# Altium integrated library Altium_WRIS-RSKS (rev23a).IntLib: 507 symbols (part 10 of 10)
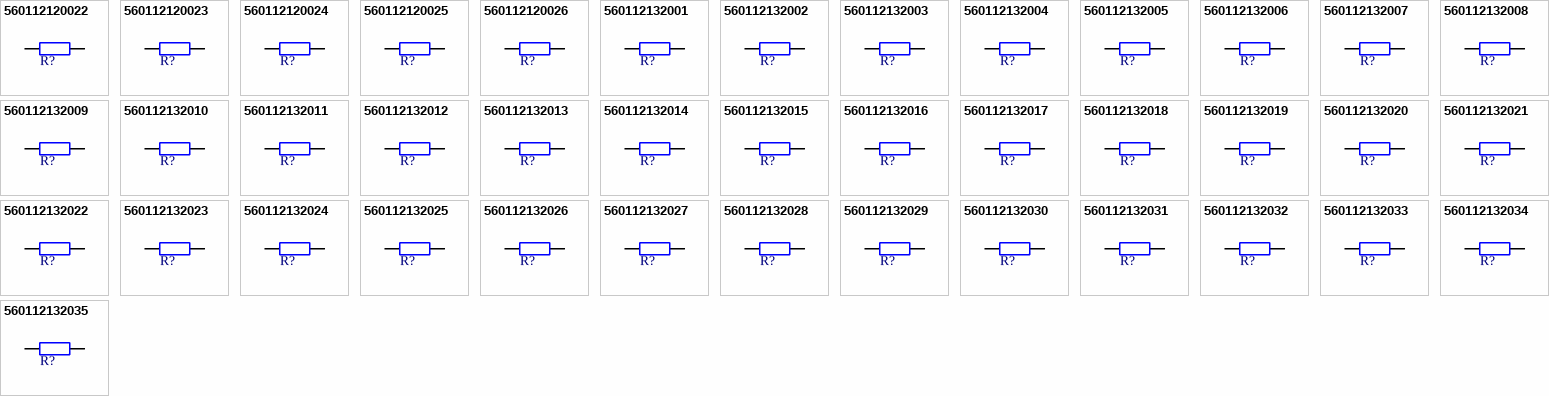
[diagram p21: symbols 560112120022 to 560112132035]

## 560112132026
designator R?, comment 39000Ohm, 250mW  (value not drawn)
WRIS-RSKS Thick Film Resistor, size 1206, 39000Ohm, 250mW; Manufacturer Part Number: 560112132026; Manufacturer: Wurth Elektronik; Case/Size Code: 1206; Limiting Element Voltage: 200V; Resistance Tolerance: +/-1%; Temperature Coefficient of Resistance Min: -100ppm/°C; Temperature Coefficient of Resistance Max: 100ppm/°C; Category: Thick Film Resistors; Match Code: WRIS-RSKS; ComponentLink1Description: Website Link; ComponentLink1URL: https://www.we-online.com/redexpert/article/560112132026?ad; ComponentLink2Description: Datasheet Link; ComponentLink2URL: https://www.we-online.com/redexpert/spec/560112132026?ad; Mount: Surface Mount; Operating Temperature Max: 155°C; Operating Temperature Min: -55°C; Packaging: Tape and Reel; Length: 3.1mm; Width: 1.6mm; Height: 0.6mm; Rated Power: 250mW; Resistance: 39000Ohm
footprint WRIS-RSKS_1206_Reflow
footprint WRIS-RSKS_1206_Wave
pins: 1, 2

## 560112132027
designator R?, comment 2700Ohm, 250mW  (value not drawn)
WRIS-RSKS Thick Film Resistor, size 1206, 2700Ohm, 250mW; Manufacturer Part Number: 560112132027; Manufacturer: Wurth Elektronik; Case/Size Code: 1206; Limiting Element Voltage: 200V; Resistance Tolerance: +/-1%; Temperature Coefficient of Resistance Min: -100ppm/°C; Temperature Coefficient of Resistance Max: 100ppm/°C; Category: Thick Film Resistors; Match Code: WRIS-RSKS; ComponentLink1Description: Website Link; ComponentLink1URL: https://www.we-online.com/redexpert/article/560112132027?ad; ComponentLink2Description: Datasheet Link; ComponentLink2URL: https://www.we-online.com/redexpert/spec/560112132027?ad; Mount: Surface Mount; Operating Temperature Max: 155°C; Operating Temperature Min: -55°C; Packaging: Tape and Reel; Length: 3.1mm; Width: 1.6mm; Height: 0.6mm; Rated Power: 250mW; Resistance: 2700Ohm
footprint WRIS-RSKS_1206_Reflow
footprint WRIS-RSKS_1206_Wave
pins: 1, 2

## 560112132028
designator R?, comment 82000Ohm, 250mW  (value not drawn)
WRIS-RSKS Thick Film Resistor, size 1206, 82000Ohm, 250mW; Manufacturer Part Number: 560112132028; Manufacturer: Wurth Elektronik; Case/Size Code: 1206; Limiting Element Voltage: 200V; Resistance Tolerance: +/-1%; Temperature Coefficient of Resistance Min: -100ppm/°C; Temperature Coefficient of Resistance Max: 100ppm/°C; Category: Thick Film Resistors; Match Code: WRIS-RSKS; ComponentLink1Description: Website Link; ComponentLink1URL: https://www.we-online.com/redexpert/article/560112132028?ad; ComponentLink2Description: Datasheet Link; ComponentLink2URL: https://www.we-online.com/redexpert/spec/560112132028?ad; Mount: Surface Mount; Operating Temperature Max: 155°C; Operating Temperature Min: -55°C; Packaging: Tape and Reel; Length: 3.1mm; Width: 1.6mm; Height: 0.6mm; Rated Power: 250mW; Resistance: 82000Ohm
footprint WRIS-RSKS_1206_Reflow
footprint WRIS-RSKS_1206_Wave
pins: 1, 2

## 560112132029
designator R?, comment 4700000Ohm, 250mW  (value not drawn)
WRIS-RSKS Thick Film Resistor, size 1206, 4700000Ohm, 250mW; Manufacturer Part Number: 560112132029; Manufacturer: Wurth Elektronik; Case/Size Code: 1206; Limiting Element Voltage: 200V; Resistance Tolerance: +/-1%; Temperature Coefficient of Resistance Min: -200ppm/°C; Temperature Coefficient of Resistance Max: 200ppm/°C; Category: Thick Film Resistors; Match Code: WRIS-RSKS; ComponentLink1Description: Website Link; ComponentLink1URL: https://www.we-online.com/redexpert/article/560112132029?ad; ComponentLink2Description: Datasheet Link; ComponentLink2URL: https://www.we-online.com/redexpert/spec/560112132029?ad; Mount: Surface Mount; Operating Temperature Max: 155°C; Operating Temperature Min: -55°C; Packaging: Tape and Reel; Length: 3.1mm; Width: 1.6mm; Height: 0.6mm; Rated Power: 250mW; Resistance: 4700000Ohm
footprint WRIS-RSKS_1206_Reflow
footprint WRIS-RSKS_1206_Wave
pins: 1, 2

## 560112132030
designator R?, comment 1000Ohm, 250mW  (value not drawn)
WRIS-RSKS Thick Film Resistor, size 1206, 1000Ohm, 250mW; Manufacturer Part Number: 560112132030; Manufacturer: Wurth Elektronik; Case/Size Code: 1206; Limiting Element Voltage: 200V; Resistance Tolerance: +/-5%; Temperature Coefficient of Resistance Min: -100ppm/°C; Temperature Coefficient of Resistance Max: 100ppm/°C; Category: Thick Film Resistors; Match Code: WRIS-RSKS; ComponentLink1Description: Website Link; ComponentLink1URL: https://www.we-online.com/redexpert/article/560112132030?ad; ComponentLink2Description: Datasheet Link; ComponentLink2URL: https://www.we-online.com/redexpert/spec/560112132030?ad; Mount: Surface Mount; Operating Temperature Max: 155°C; Operating Temperature Min: -55°C; Packaging: Tape and Reel; Length: 3.1mm; Width: 1.6mm; Height: 0.6mm; Rated Power: 250mW; Resistance: 1000Ohm
footprint WRIS-RSKS_1206_Reflow
footprint WRIS-RSKS_1206_Wave
pins: 1, 2

## 560112132031
designator R?, comment 4.3Ohm, 250mW  (value not drawn)
WRIS-RSKS Thick Film Resistor, size 1206, 4.3Ohm, 250mW; Manufacturer Part Number: 560112132031; Manufacturer: Wurth Elektronik; Case/Size Code: 1206; Limiting Element Voltage: 200V; Resistance Tolerance: +/-1%; Temperature Coefficient of Resistance Min: -200ppm/°C; Temperature Coefficient of Resistance Max: 400ppm/°C; Category: Thick Film Resistors; Match Code: WRIS-RSKS; ComponentLink1Description: Website Link; ComponentLink1URL: https://www.we-online.com/redexpert/article/560112132031?ad; ComponentLink2Description: Datasheet Link; ComponentLink2URL: https://www.we-online.com/redexpert/spec/560112132031?ad; Mount: Surface Mount; Operating Temperature Max: 155°C; Operating Temperature Min: -55°C; Packaging: Tape and Reel; Length: 3.1mm; Width: 1.6mm; Height: 0.6mm; Rated Power: 250mW; Resistance: 4.3Ohm
footprint WRIS-RSKS_1206_Reflow
footprint WRIS-RSKS_1206_Wave
pins: 1, 2

## 560112132032
designator R?, comment 18Ohm, 250mW  (value not drawn)
WRIS-RSKS Thick Film Resistor, size 1206, 18Ohm, 250mW; Manufacturer Part Number: 560112132032; Manufacturer: Wurth Elektronik; Case/Size Code: 1206; Limiting Element Voltage: 200V; Resistance Tolerance: +/-5%; Temperature Coefficient of Resistance Min: -100ppm/°C; Temperature Coefficient of Resistance Max: 100ppm/°C; Category: Thick Film Resistors; Match Code: WRIS-RSKS; ComponentLink1Description: Website Link; ComponentLink1URL: https://www.we-online.com/redexpert/article/560112132032?ad; ComponentLink2Description: Datasheet Link; ComponentLink2URL: https://www.we-online.com/redexpert/spec/560112132032?ad; Mount: Surface Mount; Operating Temperature Max: 155°C; Operating Temperature Min: -55°C; Packaging: Tape and Reel; Length: 3.1mm; Width: 1.6mm; Height: 0.6mm; Rated Power: 250mW; Resistance: 18Ohm
footprint WRIS-RSKS_1206_Reflow
footprint WRIS-RSKS_1206_Wave
pins: 1, 2

## 560112132033
designator R?, comment 33Ohm, 250mW  (value not drawn)
WRIS-RSKS Thick Film Resistor, size 1206, 33Ohm, 250mW; Manufacturer Part Number: 560112132033; Manufacturer: Wurth Elektronik; Case/Size Code: 1206; Limiting Element Voltage: 200V; Resistance Tolerance: +/-5%; Temperature Coefficient of Resistance Min: -100ppm/°C; Temperature Coefficient of Resistance Max: 100ppm/°C; Category: Thick Film Resistors; Match Code: WRIS-RSKS; ComponentLink1Description: Website Link; ComponentLink1URL: https://www.we-online.com/redexpert/article/560112132033?ad; ComponentLink2Description: Datasheet Link; ComponentLink2URL: https://www.we-online.com/redexpert/spec/560112132033?ad; Mount: Surface Mount; Operating Temperature Max: 155°C; Operating Temperature Min: -55°C; Packaging: Tape and Reel; Length: 3.1mm; Width: 1.6mm; Height: 0.6mm; Rated Power: 250mW; Resistance: 33Ohm
footprint WRIS-RSKS_1206_Reflow
footprint WRIS-RSKS_1206_Wave
pins: 1, 2

## 560112132034
designator R?, comment 100000Ohm, 250mW  (value not drawn)
WRIS-RSKS Thick Film Resistor, size 1206, 100000Ohm, 250mW; Manufacturer Part Number: 560112132034; Manufacturer: Wurth Elektronik; Case/Size Code: 1206; Limiting Element Voltage: 200V; Resistance Tolerance: +/-1%; Temperature Coefficient of Resistance Min: -100ppm/°C; Temperature Coefficient of Resistance Max: 100ppm/°C; Category: Thick Film Resistors; Match Code: WRIS-RSKS; ComponentLink1Description: Website Link; ComponentLink1URL: https://www.we-online.com/redexpert/article/560112132034?ad; ComponentLink2Description: Datasheet Link; ComponentLink2URL: https://www.we-online.com/redexpert/spec/560112132034?ad; Mount: Surface Mount; Operating Temperature Max: 155°C; Operating Temperature Min: -55°C; Packaging: Tape and Reel; Length: 3.1mm; Width: 1.6mm; Height: 0.6mm; Rated Power: 250mW; Resistance: 100000Ohm
footprint WRIS-RSKS_1206_Reflow
footprint WRIS-RSKS_1206_Wave
pins: 1, 2

## 560112132035
designator R?, comment 422000Ohm, 250mW  (value not drawn)
WRIS-RSKS Thick Film Resistor, size 1206, 422000Ohm, 250mW; Manufacturer Part Number: 560112132035; Manufacturer: Wurth Elektronik; Case/Size Code: 1206; Limiting Element Voltage: 200V; Resistance Tolerance: +/-1%; Temperature Coefficient of Resistance Min: -100ppm/°C; Temperature Coefficient of Resistance Max: 100ppm/°C; Category: Thick Film Resistors; Match Code: WRIS-RSKS; ComponentLink1Description: Website Link; ComponentLink1URL: https://www.we-online.com/redexpert/article/560112132035?ad; ComponentLink2Description: Datasheet Link; ComponentLink2URL: https://www.we-online.com/redexpert/spec/560112132035?ad; Mount: Surface Mount; Operating Temperature Max: 155°C; Operating Temperature Min: -55°C; Packaging: Tape and Reel; Length: 3.1mm; Width: 1.6mm; Height: 0.6mm; Rated Power: 250mW; Resistance: 422000Ohm
footprint WRIS-RSKS_1206_Reflow
footprint WRIS-RSKS_1206_Wave
pins: 1, 2

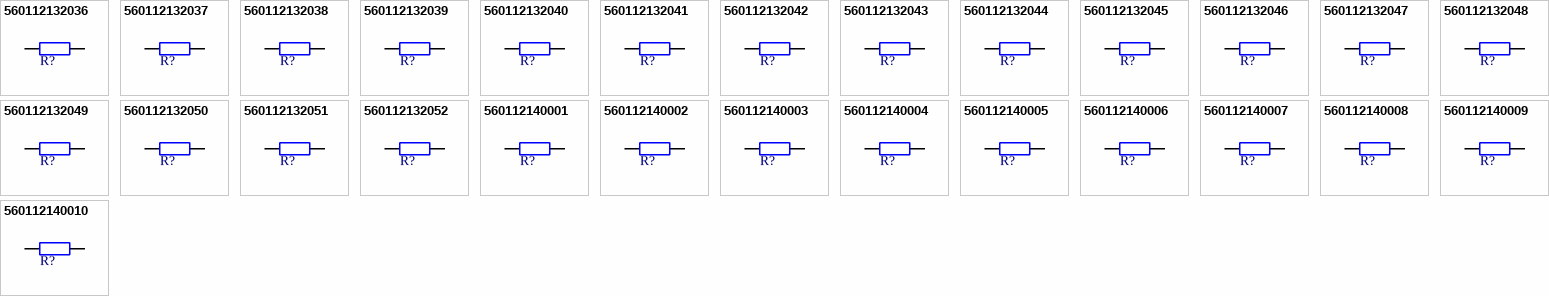
[diagram p12: symbols 560112132036 to 560112140010]

## 560112132036
designator R?, comment 330000Ohm, 250mW  (value not drawn)
WRIS-RSKS Thick Film Resistor, size 1206, 330000Ohm, 250mW; Manufacturer Part Number: 560112132036; Manufacturer: Wurth Elektronik; Case/Size Code: 1206; Limiting Element Voltage: 200V; Resistance Tolerance: +/-1%; Temperature Coefficient of Resistance Min: -100ppm/°C; Temperature Coefficient of Resistance Max: 100ppm/°C; Category: Thick Film Resistors; Match Code: WRIS-RSKS; ComponentLink1Description: Website Link; ComponentLink1URL: https://www.we-online.com/redexpert/article/560112132036?ad; ComponentLink2Description: Datasheet Link; ComponentLink2URL: https://www.we-online.com/redexpert/spec/560112132036?ad; Mount: Surface Mount; Operating Temperature Max: 155°C; Operating Temperature Min: -55°C; Packaging: Tape and Reel; Length: 3.1mm; Width: 1.6mm; Height: 0.6mm; Rated Power: 250mW; Resistance: 330000Ohm
footprint WRIS-RSKS_1206_Reflow
footprint WRIS-RSKS_1206_Wave
pins: 1, 2

## 560112132037
designator R?, comment 39Ohm, 250mW  (value not drawn)
WRIS-RSKS Thick Film Resistor, size 1206, 39Ohm, 250mW; Manufacturer Part Number: 560112132037; Manufacturer: Wurth Elektronik; Case/Size Code: 1206; Limiting Element Voltage: 200V; Resistance Tolerance: +/-1%; Temperature Coefficient of Resistance Min: -100ppm/°C; Temperature Coefficient of Resistance Max: 100ppm/°C; Category: Thick Film Resistors; Match Code: WRIS-RSKS; ComponentLink1Description: Website Link; ComponentLink1URL: https://www.we-online.com/redexpert/article/560112132037?ad; ComponentLink2Description: Datasheet Link; ComponentLink2URL: https://www.we-online.com/redexpert/spec/560112132037?ad; Mount: Surface Mount; Operating Temperature Max: 155°C; Operating Temperature Min: -55°C; Packaging: Tape and Reel; Length: 3.1mm; Width: 1.6mm; Height: 0.6mm; Rated Power: 250mW; Resistance: 39Ohm
footprint WRIS-RSKS_1206_Reflow
footprint WRIS-RSKS_1206_Wave
pins: 1, 2

## 560112132038
designator R?, comment 1000Ohm, 250mW  (value not drawn)
WRIS-RSKS Thick Film Resistor, size 1206, 1000Ohm, 250mW; Manufacturer Part Number: 560112132038; Manufacturer: Wurth Elektronik; Case/Size Code: 1206; Limiting Element Voltage: 200V; Resistance Tolerance: +/-1%; Temperature Coefficient of Resistance Min: -100ppm/°C; Temperature Coefficient of Resistance Max: 100ppm/°C; Category: Thick Film Resistors; Match Code: WRIS-RSKS; ComponentLink1Description: Website Link; ComponentLink1URL: https://www.we-online.com/redexpert/article/560112132038?ad; ComponentLink2Description: Datasheet Link; ComponentLink2URL: https://www.we-online.com/redexpert/spec/560112132038?ad; Mount: Surface Mount; Operating Temperature Max: 155°C; Operating Temperature Min: -55°C; Packaging: Tape and Reel; Length: 3.1mm; Width: 1.6mm; Height: 0.6mm; Rated Power: 250mW; Resistance: 1000Ohm
footprint WRIS-RSKS_1206_Reflow
footprint WRIS-RSKS_1206_Wave
pins: 1, 2

## 560112132039
designator R?, comment 10Ohm, 250mW  (value not drawn)
WRIS-RSKS Thick Film Resistor, size 1206, 10Ohm, 250mW; Manufacturer Part Number: 560112132039; Manufacturer: Wurth Elektronik; Case/Size Code: 1206; Limiting Element Voltage: 200V; Resistance Tolerance: +/-1%; Temperature Coefficient of Resistance Min: -200ppm/°C; Temperature Coefficient of Resistance Max: 400ppm/°C; Category: Thick Film Resistors; Match Code: WRIS-RSKS; ComponentLink1Description: Website Link; ComponentLink1URL: https://www.we-online.com/redexpert/article/560112132039?ad; ComponentLink2Description: Datasheet Link; ComponentLink2URL: https://www.we-online.com/redexpert/spec/560112132039?ad; Mount: Surface Mount; Operating Temperature Max: 155°C; Operating Temperature Min: -55°C; Packaging: Tape and Reel; Length: 3.1mm; Width: 1.6mm; Height: 0.6mm; Rated Power: 250mW; Resistance: 10Ohm
footprint WRIS-RSKS_1206_Reflow
footprint WRIS-RSKS_1206_Wave
pins: 1, 2

## 560112132040
designator R?, comment 1500000Ohm, 250mW  (value not drawn)
WRIS-RSKS Thick Film Resistor, size 1206, 1500000Ohm, 250mW; Manufacturer Part Number: 560112132040; Manufacturer: Wurth Elektronik; Case/Size Code: 1206; Limiting Element Voltage: 200V; Resistance Tolerance: +/-1%; Temperature Coefficient of Resistance Min: -200ppm/°C; Temperature Coefficient of Resistance Max: 200ppm/°C; Category: Thick Film Resistors; Match Code: WRIS-RSKS; ComponentLink1Description: Website Link; ComponentLink1URL: https://www.we-online.com/redexpert/article/560112132040?ad; ComponentLink2Description: Datasheet Link; ComponentLink2URL: https://www.we-online.com/redexpert/spec/560112132040?ad; Mount: Surface Mount; Operating Temperature Max: 155°C; Operating Temperature Min: -55°C; Packaging: Tape and Reel; Length: 3.1mm; Width: 1.6mm; Height: 0.6mm; Rated Power: 250mW; Resistance: 1500000Ohm
footprint WRIS-RSKS_1206_Reflow
footprint WRIS-RSKS_1206_Wave
pins: 1, 2

## 560112132041
designator R?, comment 20000Ohm, 250mW  (value not drawn)
WRIS-RSKS Thick Film Resistor, size 1206, 20000Ohm, 250mW; Manufacturer Part Number: 560112132041; Manufacturer: Wurth Elektronik; Case/Size Code: 1206; Limiting Element Voltage: 200V; Resistance Tolerance: +/-1%; Temperature Coefficient of Resistance Min: -100ppm/°C; Temperature Coefficient of Resistance Max: 100ppm/°C; Category: Thick Film Resistors; Match Code: WRIS-RSKS; ComponentLink1Description: Website Link; ComponentLink1URL: https://www.we-online.com/redexpert/article/560112132041?ad; ComponentLink2Description: Datasheet Link; ComponentLink2URL: https://www.we-online.com/redexpert/spec/560112132041?ad; Mount: Surface Mount; Operating Temperature Max: 155°C; Operating Temperature Min: -55°C; Packaging: Tape and Reel; Length: 3.1mm; Width: 1.6mm; Height: 0.6mm; Rated Power: 250mW; Resistance: 20000Ohm
footprint WRIS-RSKS_1206_Reflow
footprint WRIS-RSKS_1206_Wave
pins: 1, 2

## 560112132042
designator R?, comment 22Ohm, 250mW  (value not drawn)
WRIS-RSKS Thick Film Resistor, size 1206, 22Ohm, 250mW; Manufacturer Part Number: 560112132042; Manufacturer: Wurth Elektronik; Case/Size Code: 1206; Limiting Element Voltage: 200V; Resistance Tolerance: +/-1%; Temperature Coefficient of Resistance Min: -100ppm/°C; Temperature Coefficient of Resistance Max: 100ppm/°C; Category: Thick Film Resistors; Match Code: WRIS-RSKS; ComponentLink1Description: Website Link; ComponentLink1URL: https://www.we-online.com/redexpert/article/560112132042?ad; ComponentLink2Description: Datasheet Link; ComponentLink2URL: https://www.we-online.com/redexpert/spec/560112132042?ad; Mount: Surface Mount; Operating Temperature Max: 155°C; Operating Temperature Min: -55°C; Packaging: Tape and Reel; Length: 3.1mm; Width: 1.6mm; Height: 0.6mm; Rated Power: 250mW; Resistance: 22Ohm
footprint WRIS-RSKS_1206_Reflow
footprint WRIS-RSKS_1206_Wave
pins: 1, 2

## 560112132043
designator R?, comment 24.9Ohm, 250mW  (value not drawn)
WRIS-RSKS Thick Film Resistor, size 1206, 24.9Ohm, 250mW; Manufacturer Part Number: 560112132043; Manufacturer: Wurth Elektronik; Case/Size Code: 1206; Limiting Element Voltage: 200V; Resistance Tolerance: +/-1%; Temperature Coefficient of Resistance Min: -100ppm/°C; Temperature Coefficient of Resistance Max: 100ppm/°C; Category: Thick Film Resistors; Match Code: WRIS-RSKS; ComponentLink1Description: Website Link; ComponentLink1URL: https://www.we-online.com/redexpert/article/560112132043?ad; ComponentLink2Description: Datasheet Link; ComponentLink2URL: https://www.we-online.com/redexpert/spec/560112132043?ad; Mount: Surface Mount; Operating Temperature Max: 155°C; Operating Temperature Min: -55°C; Packaging: Tape and Reel; Length: 3.1mm; Width: 1.6mm; Height: 0.6mm; Rated Power: 250mW; Resistance: 24.9Ohm
footprint WRIS-RSKS_1206_Reflow
footprint WRIS-RSKS_1206_Wave
pins: 1, 2

## 560112132044
designator R?, comment 300Ohm, 250mW  (value not drawn)
WRIS-RSKS Thick Film Resistor, size 1206, 300Ohm, 250mW; Manufacturer Part Number: 560112132044; Manufacturer: Wurth Elektronik; Case/Size Code: 1206; Limiting Element Voltage: 200V; Resistance Tolerance: +/-1%; Temperature Coefficient of Resistance Min: -100ppm/°C; Temperature Coefficient of Resistance Max: 100ppm/°C; Category: Thick Film Resistors; Match Code: WRIS-RSKS; ComponentLink1Description: Website Link; ComponentLink1URL: https://www.we-online.com/redexpert/article/560112132044?ad; ComponentLink2Description: Datasheet Link; ComponentLink2URL: https://www.we-online.com/redexpert/spec/560112132044?ad; Mount: Surface Mount; Operating Temperature Max: 155°C; Operating Temperature Min: -55°C; Packaging: Tape and Reel; Length: 3.1mm; Width: 1.6mm; Height: 0.6mm; Rated Power: 250mW; Resistance: 300Ohm
footprint WRIS-RSKS_1206_Reflow
footprint WRIS-RSKS_1206_Wave
pins: 1, 2

## 560112132045
designator R?, comment 4.7Ohm, 250mW  (value not drawn)
WRIS-RSKS Thick Film Resistor, size 1206, 4.7Ohm, 250mW; Manufacturer Part Number: 560112132045; Manufacturer: Wurth Elektronik; Case/Size Code: 1206; Limiting Element Voltage: 200V; Resistance Tolerance: +/-1%; Temperature Coefficient of Resistance Min: -200ppm/°C; Temperature Coefficient of Resistance Max: 400ppm/°C; Category: Thick Film Resistors; Match Code: WRIS-RSKS; ComponentLink1Description: Website Link; ComponentLink1URL: https://www.we-online.com/redexpert/article/560112132045?ad; ComponentLink2Description: Datasheet Link; ComponentLink2URL: https://www.we-online.com/redexpert/spec/560112132045?ad; Mount: Surface Mount; Operating Temperature Max: 155°C; Operating Temperature Min: -55°C; Packaging: Tape and Reel; Length: 3.1mm; Width: 1.6mm; Height: 0.6mm; Rated Power: 250mW; Resistance: 4.7Ohm
footprint WRIS-RSKS_1206_Reflow
footprint WRIS-RSKS_1206_Wave
pins: 1, 2

## 560112132046
designator R?, comment 110Ohm, 250mW  (value not drawn)
WRIS-RSKS Thick Film Resistor, size 1206, 110Ohm, 250mW; Manufacturer Part Number: 560112132046; Manufacturer: Wurth Elektronik; Case/Size Code: 1206; Limiting Element Voltage: 200V; Resistance Tolerance: +/-1%; Temperature Coefficient of Resistance Min: -100ppm/°C; Temperature Coefficient of Resistance Max: 100ppm/°C; Category: Thick Film Resistors; Match Code: WRIS-RSKS; ComponentLink1Description: Website Link; ComponentLink1URL: https://www.we-online.com/redexpert/article/560112132046?ad; ComponentLink2Description: Datasheet Link; ComponentLink2URL: https://www.we-online.com/redexpert/spec/560112132046?ad; Mount: Surface Mount; Operating Temperature Max: 155°C; Operating Temperature Min: -55°C; Packaging: Tape and Reel; Length: 3.1mm; Width: 1.6mm; Height: 0.6mm; Rated Power: 250mW; Resistance: 110Ohm
footprint WRIS-RSKS_1206_Reflow
footprint WRIS-RSKS_1206_Wave
pins: 1, 2

## 560112132047
designator R?, comment 2Ohm, 250mW  (value not drawn)
WRIS-RSKS Thick Film Resistor, size 1206, 2Ohm, 250mW; Manufacturer Part Number: 560112132047; Manufacturer: Wurth Elektronik; Case/Size Code: 1206; Limiting Element Voltage: 200V; Resistance Tolerance: +/-5%; Temperature Coefficient of Resistance Min: -200ppm/°C; Temperature Coefficient of Resistance Max: 400ppm/°C; Category: Thick Film Resistors; Match Code: WRIS-RSKS; ComponentLink1Description: Website Link; ComponentLink1URL: https://www.we-online.com/redexpert/article/560112132047?ad; ComponentLink2Description: Datasheet Link; ComponentLink2URL: https://www.we-online.com/redexpert/spec/560112132047?ad; Mount: Surface Mount; Operating Temperature Max: 155°C; Operating Temperature Min: -55°C; Packaging: Tape and Reel; Length: 3.1mm; Width: 1.6mm; Height: 0.6mm; Rated Power: 250mW; Resistance: 2Ohm
footprint WRIS-RSKS_1206_Reflow
footprint WRIS-RSKS_1206_Wave
pins: 1, 2

## 560112132048
designator R?, comment 3000Ohm, 250mW  (value not drawn)
WRIS-RSKS Thick Film Resistor, size 1206, 3000Ohm, 250mW; Manufacturer Part Number: 560112132048; Manufacturer: Wurth Elektronik; Case/Size Code: 1206; Limiting Element Voltage: 200V; Resistance Tolerance: +/-1%; Temperature Coefficient of Resistance Min: -100ppm/°C; Temperature Coefficient of Resistance Max: 100ppm/°C; Category: Thick Film Resistors; Match Code: WRIS-RSKS; ComponentLink1Description: Website Link; ComponentLink1URL: https://www.we-online.com/redexpert/article/560112132048?ad; ComponentLink2Description: Datasheet Link; ComponentLink2URL: https://www.we-online.com/redexpert/spec/560112132048?ad; Mount: Surface Mount; Operating Temperature Max: 155°C; Operating Temperature Min: -55°C; Packaging: Tape and Reel; Length: 3.1mm; Width: 1.6mm; Height: 0.6mm; Rated Power: 250mW; Resistance: 3000Ohm
footprint WRIS-RSKS_1206_Reflow
footprint WRIS-RSKS_1206_Wave
pins: 1, 2

## 560112132049
designator R?, comment 680Ohm, 250mW  (value not drawn)
WRIS-RSKS Thick Film Resistor, size 1206, 680Ohm, 250mW; Manufacturer Part Number: 560112132049; Manufacturer: Wurth Elektronik; Case/Size Code: 1206; Limiting Element Voltage: 200V; Resistance Tolerance: +/-5%; Temperature Coefficient of Resistance Min: -100ppm/°C; Temperature Coefficient of Resistance Max: 100ppm/°C; Category: Thick Film Resistors; Match Code: WRIS-RSKS; ComponentLink1Description: Website Link; ComponentLink1URL: https://www.we-online.com/redexpert/article/560112132049?ad; ComponentLink2Description: Datasheet Link; ComponentLink2URL: https://www.we-online.com/redexpert/spec/560112132049?ad; Mount: Surface Mount; Operating Temperature Max: 155°C; Operating Temperature Min: -55°C; Packaging: Tape and Reel; Length: 3.1mm; Width: 1.6mm; Height: 0.6mm; Rated Power: 250mW; Resistance: 680Ohm
footprint WRIS-RSKS_1206_Reflow
footprint WRIS-RSKS_1206_Wave
pins: 1, 2

## 560112132050
designator R?, comment 68Ohm, 250mW  (value not drawn)
WRIS-RSKS Thick Film Resistor, size 1206, 68Ohm, 250mW; Manufacturer Part Number: 560112132050; Manufacturer: Wurth Elektronik; Case/Size Code: 1206; Limiting Element Voltage: 200V; Resistance Tolerance: +/-1%; Temperature Coefficient of Resistance Min: -100ppm/°C; Temperature Coefficient of Resistance Max: 100ppm/°C; Category: Thick Film Resistors; Match Code: WRIS-RSKS; ComponentLink1Description: Website Link; ComponentLink1URL: https://www.we-online.com/redexpert/article/560112132050?ad; ComponentLink2Description: Datasheet Link; ComponentLink2URL: https://www.we-online.com/redexpert/spec/560112132050?ad; Mount: Surface Mount; Operating Temperature Max: 155°C; Operating Temperature Min: -55°C; Packaging: Tape and Reel; Length: 3.1mm; Width: 1.6mm; Height: 0.6mm; Rated Power: 250mW; Resistance: 68Ohm
footprint WRIS-RSKS_1206_Reflow
footprint WRIS-RSKS_1206_Wave
pins: 1, 2

## 560112132051
designator R?, comment 8200Ohm, 250mW  (value not drawn)
WRIS-RSKS Thick Film Resistor, size 1206, 8200Ohm, 250mW; Manufacturer Part Number: 560112132051; Manufacturer: Wurth Elektronik; Case/Size Code: 1206; Limiting Element Voltage: 200V; Resistance Tolerance: +/-5%; Temperature Coefficient of Resistance Min: -100ppm/°C; Temperature Coefficient of Resistance Max: 100ppm/°C; Category: Thick Film Resistors; Match Code: WRIS-RSKS; ComponentLink1Description: Website Link; ComponentLink1URL: https://www.we-online.com/redexpert/article/560112132051?ad; ComponentLink2Description: Datasheet Link; ComponentLink2URL: https://www.we-online.com/redexpert/spec/560112132051?ad; Mount: Surface Mount; Operating Temperature Max: 155°C; Operating Temperature Min: -55°C; Packaging: Tape and Reel; Length: 3.1mm; Width: 1.6mm; Height: 0.6mm; Rated Power: 250mW; Resistance: 8200Ohm
footprint WRIS-RSKS_1206_Reflow
footprint WRIS-RSKS_1206_Wave
pins: 1, 2

## 560112132052
designator R?, comment 1650000Ohm, 250mW  (value not drawn)
WRIS-RSKS Thick Film Resistor, size 1206, 1650000Ohm, 250mW; Manufacturer Part Number: 560112132052; Manufacturer: Wurth Elektronik; Case/Size Code: 1206; Limiting Element Voltage: 200V; Resistance Tolerance: +/-1%; Temperature Coefficient of Resistance Min: -200ppm/°C; Temperature Coefficient of Resistance Max: 200ppm/°C; Category: Thick Film Resistors; Match Code: WRIS-RSKS; ComponentLink1Description: Website Link; ComponentLink1URL: https://www.we-online.com/redexpert/article/560112132052?ad; ComponentLink2Description: Datasheet Link; ComponentLink2URL: https://www.we-online.com/redexpert/spec/560112132052?ad; Mount: Surface Mount; Operating Temperature Max: 155°C; Operating Temperature Min: -55°C; Packaging: Tape and Reel; Length: 3.1mm; Width: 1.6mm; Height: 0.6mm; Rated Power: 250mW; Resistance: 1650000Ohm
footprint WRIS-RSKS_1206_Reflow
footprint WRIS-RSKS_1206_Wave
pins: 1, 2

## 560112140001
designator R?, comment 4700Ohm, 500mW  (value not drawn)
WRIS-RSKS Thick Film Resistor, size 1210, 4700Ohm, 500mW; Manufacturer Part Number: 560112140001; Manufacturer: Wurth Elektronik; Case/Size Code: 1210; Limiting Element Voltage: 200V; Resistance Tolerance: +/-5%; Temperature Coefficient of Resistance Min: -100ppm/°C; Temperature Coefficient of Resistance Max: 100ppm/°C; Category: Thick Film Resistors; Match Code: WRIS-RSKS; ComponentLink1Description: Website Link; ComponentLink1URL: https://www.we-online.com/redexpert/article/560112140001?ad; ComponentLink2Description: Datasheet Link; ComponentLink2URL: https://www.we-online.com/redexpert/spec/560112140001?ad; Mount: Surface Mount; Operating Temperature Max: 155°C; Operating Temperature Min: -55°C; Packaging: Tape and Reel; Length: 3.1mm; Width: 2.6mm; Height: 0.55mm; Rated Power: 500mW; Resistance: 4700Ohm
footprint WRIS-RSKS_1210_Reflow
footprint WRIS-RSKS_1210_Wave
pins: 1, 2

## 560112140002
designator R?, comment 100000Ohm, 500mW  (value not drawn)
WRIS-RSKS Thick Film Resistor, size 1210, 100000Ohm, 500mW; Manufacturer Part Number: 560112140002; Manufacturer: Wurth Elektronik; Case/Size Code: 1210; Limiting Element Voltage: 200V; Resistance Tolerance: +/-5%; Temperature Coefficient of Resistance Min: -100ppm/°C; Temperature Coefficient of Resistance Max: 100ppm/°C; Category: Thick Film Resistors; Match Code: WRIS-RSKS; ComponentLink1Description: Website Link; ComponentLink1URL: https://www.we-online.com/redexpert/article/560112140002?ad; ComponentLink2Description: Datasheet Link; ComponentLink2URL: https://www.we-online.com/redexpert/spec/560112140002?ad; Mount: Surface Mount; Operating Temperature Max: 155°C; Operating Temperature Min: -55°C; Packaging: Tape and Reel; Length: 3.1mm; Width: 2.6mm; Height: 0.55mm; Rated Power: 500mW; Resistance: 100000Ohm
footprint WRIS-RSKS_1210_Reflow
footprint WRIS-RSKS_1210_Wave
pins: 1, 2

## 560112140003
designator R?, comment 80600Ohm, 500mW  (value not drawn)
WRIS-RSKS Thick Film Resistor, size 1210, 80600Ohm, 500mW; Manufacturer Part Number: 560112140003; Manufacturer: Wurth Elektronik; Case/Size Code: 1210; Limiting Element Voltage: 200V; Resistance Tolerance: +/-1%; Temperature Coefficient of Resistance Min: -100ppm/°C; Temperature Coefficient of Resistance Max: 100ppm/°C; Category: Thick Film Resistors; Match Code: WRIS-RSKS; ComponentLink1Description: Website Link; ComponentLink1URL: https://www.we-online.com/redexpert/article/560112140003?ad; ComponentLink2Description: Datasheet Link; ComponentLink2URL: https://www.we-online.com/redexpert/spec/560112140003?ad; Mount: Surface Mount; Operating Temperature Max: 155°C; Operating Temperature Min: -55°C; Packaging: Tape and Reel; Length: 3.1mm; Width: 2.6mm; Height: 0.55mm; Rated Power: 500mW; Resistance: 80600Ohm
footprint WRIS-RSKS_1210_Reflow
footprint WRIS-RSKS_1210_Wave
pins: 1, 2

## 560112140004
designator R?, comment 47000Ohm, 500mW  (value not drawn)
WRIS-RSKS Thick Film Resistor, size 1210, 47000Ohm, 500mW; Manufacturer Part Number: 560112140004; Manufacturer: Wurth Elektronik; Case/Size Code: 1210; Limiting Element Voltage: 200V; Resistance Tolerance: +/-5%; Temperature Coefficient of Resistance Min: -100ppm/°C; Temperature Coefficient of Resistance Max: 100ppm/°C; Category: Thick Film Resistors; Match Code: WRIS-RSKS; ComponentLink1Description: Website Link; ComponentLink1URL: https://www.we-online.com/redexpert/article/560112140004?ad; ComponentLink2Description: Datasheet Link; ComponentLink2URL: https://www.we-online.com/redexpert/spec/560112140004?ad; Mount: Surface Mount; Operating Temperature Max: 155°C; Operating Temperature Min: -55°C; Packaging: Tape and Reel; Length: 3.1mm; Width: 2.6mm; Height: 0.55mm; Rated Power: 500mW; Resistance: 47000Ohm
footprint WRIS-RSKS_1210_Reflow
footprint WRIS-RSKS_1210_Wave
pins: 1, 2

## 560112140005
designator R?, comment 39000Ohm, 500mW  (value not drawn)
WRIS-RSKS Thick Film Resistor, size 1210, 39000Ohm, 500mW; Manufacturer Part Number: 560112140005; Manufacturer: Wurth Elektronik; Case/Size Code: 1210; Limiting Element Voltage: 200V; Resistance Tolerance: +/-1%; Temperature Coefficient of Resistance Min: -100ppm/°C; Temperature Coefficient of Resistance Max: 100ppm/°C; Category: Thick Film Resistors; Match Code: WRIS-RSKS; ComponentLink1Description: Website Link; ComponentLink1URL: https://www.we-online.com/redexpert/article/560112140005?ad; ComponentLink2Description: Datasheet Link; ComponentLink2URL: https://www.we-online.com/redexpert/spec/560112140005?ad; Mount: Surface Mount; Operating Temperature Max: 155°C; Operating Temperature Min: -55°C; Packaging: Tape and Reel; Length: 3.1mm; Width: 2.6mm; Height: 0.55mm; Rated Power: 500mW; Resistance: 39000Ohm
footprint WRIS-RSKS_1210_Reflow
footprint WRIS-RSKS_1210_Wave
pins: 1, 2

## 560112140006
designator R?, comment 200000Ohm, 500mW  (value not drawn)
WRIS-RSKS Thick Film Resistor, size 1210, 200000Ohm, 500mW; Manufacturer Part Number: 560112140006; Manufacturer: Wurth Elektronik; Case/Size Code: 1210; Limiting Element Voltage: 200V; Resistance Tolerance: +/-5%; Temperature Coefficient of Resistance Min: -100ppm/°C; Temperature Coefficient of Resistance Max: 100ppm/°C; Category: Thick Film Resistors; Match Code: WRIS-RSKS; ComponentLink1Description: Website Link; ComponentLink1URL: https://www.we-online.com/redexpert/article/560112140006?ad; ComponentLink2Description: Datasheet Link; ComponentLink2URL: https://www.we-online.com/redexpert/spec/560112140006?ad; Mount: Surface Mount; Operating Temperature Max: 155°C; Operating Temperature Min: -55°C; Packaging: Tape and Reel; Length: 3.1mm; Width: 2.6mm; Height: 0.55mm; Rated Power: 500mW; Resistance: 200000Ohm
footprint WRIS-RSKS_1210_Reflow
footprint WRIS-RSKS_1210_Wave
pins: 1, 2

## 560112140007
designator R?, comment 2200Ohm, 500mW  (value not drawn)
WRIS-RSKS Thick Film Resistor, size 1210, 2200Ohm, 500mW; Manufacturer Part Number: 560112140007; Manufacturer: Wurth Elektronik; Case/Size Code: 1210; Limiting Element Voltage: 200V; Resistance Tolerance: +/-5%; Temperature Coefficient of Resistance Min: -100ppm/°C; Temperature Coefficient of Resistance Max: 100ppm/°C; Category: Thick Film Resistors; Match Code: WRIS-RSKS; ComponentLink1Description: Website Link; ComponentLink1URL: https://www.we-online.com/redexpert/article/560112140007?ad; ComponentLink2Description: Datasheet Link; ComponentLink2URL: https://www.we-online.com/redexpert/spec/560112140007?ad; Mount: Surface Mount; Operating Temperature Max: 155°C; Operating Temperature Min: -55°C; Packaging: Tape and Reel; Length: 3.1mm; Width: 2.6mm; Height: 0.55mm; Rated Power: 500mW; Resistance: 2200Ohm
footprint WRIS-RSKS_1210_Reflow
footprint WRIS-RSKS_1210_Wave
pins: 1, 2

## 560112140008
designator R?, comment 220Ohm, 500mW  (value not drawn)
WRIS-RSKS Thick Film Resistor, size 1210, 220Ohm, 500mW; Manufacturer Part Number: 560112140008; Manufacturer: Wurth Elektronik; Case/Size Code: 1210; Limiting Element Voltage: 200V; Resistance Tolerance: +/-5%; Temperature Coefficient of Resistance Min: -100ppm/°C; Temperature Coefficient of Resistance Max: 100ppm/°C; Category: Thick Film Resistors; Match Code: WRIS-RSKS; ComponentLink1Description: Website Link; ComponentLink1URL: https://www.we-online.com/redexpert/article/560112140008?ad; ComponentLink2Description: Datasheet Link; ComponentLink2URL: https://www.we-online.com/redexpert/spec/560112140008?ad; Mount: Surface Mount; Operating Temperature Max: 155°C; Operating Temperature Min: -55°C; Packaging: Tape and Reel; Length: 3.1mm; Width: 2.6mm; Height: 0.55mm; Rated Power: 500mW; Resistance: 220Ohm
footprint WRIS-RSKS_1210_Reflow
footprint WRIS-RSKS_1210_Wave
pins: 1, 2

## 560112140009
designator R?, comment 120Ohm, 500mW  (value not drawn)
WRIS-RSKS Thick Film Resistor, size 1210, 120Ohm, 500mW; Manufacturer Part Number: 560112140009; Manufacturer: Wurth Elektronik; Case/Size Code: 1210; Limiting Element Voltage: 200V; Resistance Tolerance: +/-5%; Temperature Coefficient of Resistance Min: -100ppm/°C; Temperature Coefficient of Resistance Max: 100ppm/°C; Category: Thick Film Resistors; Match Code: WRIS-RSKS; ComponentLink1Description: Website Link; ComponentLink1URL: https://www.we-online.com/redexpert/article/560112140009?ad; ComponentLink2Description: Datasheet Link; ComponentLink2URL: https://www.we-online.com/redexpert/spec/560112140009?ad; Mount: Surface Mount; Operating Temperature Max: 155°C; Operating Temperature Min: -55°C; Packaging: Tape and Reel; Length: 3.1mm; Width: 2.6mm; Height: 0.55mm; Rated Power: 500mW; Resistance: 120Ohm
footprint WRIS-RSKS_1210_Reflow
footprint WRIS-RSKS_1210_Wave
pins: 1, 2

## 560112140010
designator R?, comment 330mW  (value not drawn)
WRIS-RSKS Thick Film Resistor, size 1210, 330mW; Manufacturer Part Number: 560112140010; Manufacturer: Wurth Elektronik; Case/Size Code: 1210; Category: Thick Film Resistors; Match Code: WRIS-RSKS; ComponentLink1Description: Website Link; ComponentLink1URL: https://www.we-online.com/redexpert/article/560112140010?ad; ComponentLink2Description: Datasheet Link; ComponentLink2URL: https://www.we-online.com/redexpert/spec/560112140010?ad; Mount: Surface Mount; Operating Temperature Max: 155°C; Operating Temperature Min: -55°C; Packaging: Tape and Reel; Length: 3.1mm; Width: 2.6mm; Height: 0.55mm; Rated Power: 330mW
footprint WRIS-RSKS_1210_Reflow
footprint WRIS-RSKS_1210_Wave
pins: 1, 2